# Altium integrated library TI Data Converters Analog to Digital Converter.IntLib: 2198 symbols (part 134 of 164)
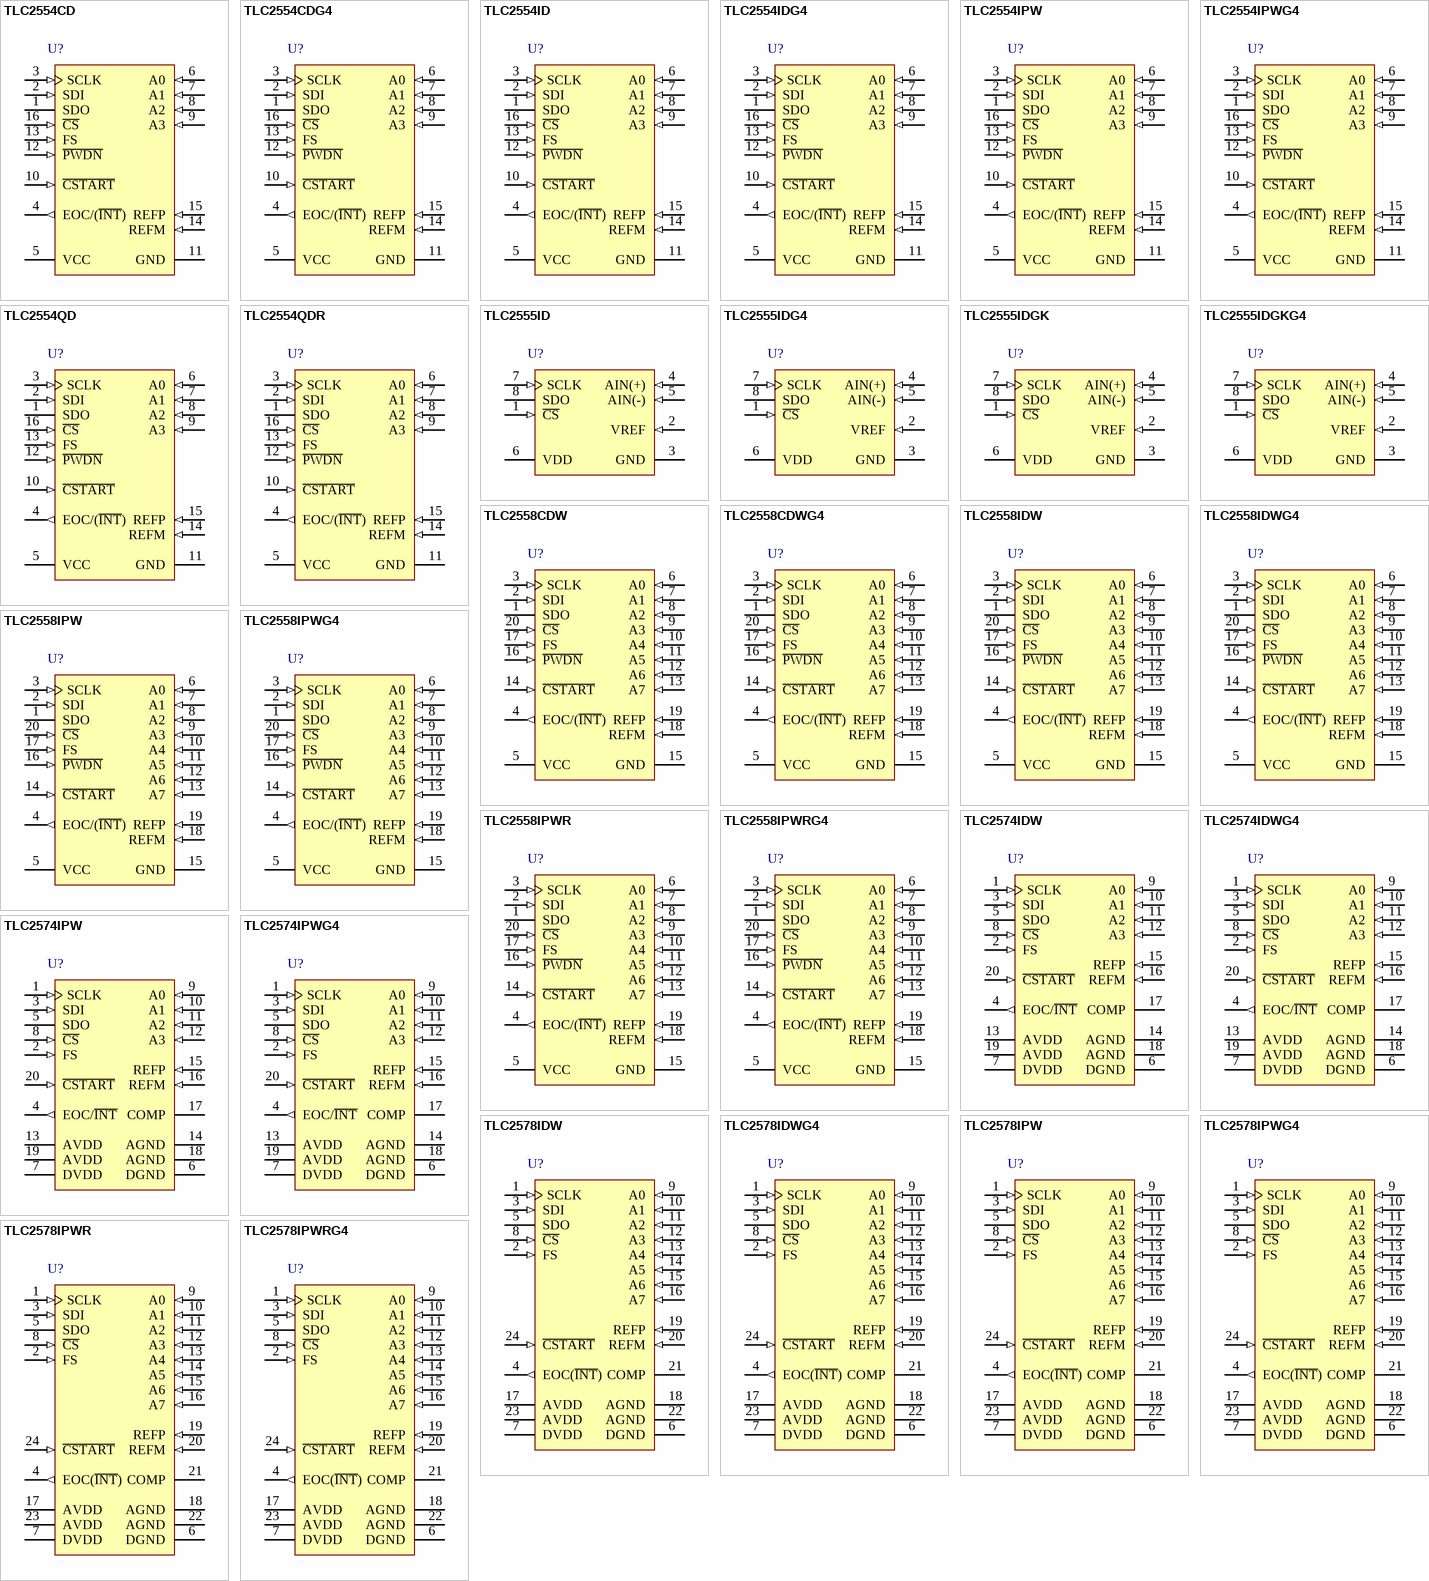
[diagram p259: symbols TLC2554CD to TLC2578IPWRG4]

## TLC2578IDWG4
designator U?
Serial Out, Low Power with Built-In Conversion Clock and 8 x FIFO, 8 Channel, -40 to 85 degC, 24-pin SOIC (DW24), Green (RoHS & no Sb/Br); Manufacturer: Texas Instruments; PartNumber: TLC2578IDWG4; # Input Channels: 8; Analog Voltage AV/DD(Max)(V): 5.5; Analog Voltage AV/DD(Min)(V): 4.75; Architecture: SAR; Digital Supply(Min)(V): 2.7; ENOB(Bits): 11.7; INL(Max)(+/-LSB): 1; Interface: Serial SPI; Resolution(Bits): 12; Sample Rate (max)(SPS): 200k; SFDR(dB): 83; SINAD(dB): 72; SubFamily: Precision ADC (<=10MSPS); DatasheetVersion: SLAS262C; PackageVersion: 4040000-5/G, 01/2011; PackageReference: DW24; PackageDescription: 24-Pin Plastic Small Outline, Body 15.4 x 7.5 mm, Pitch 1.27 mm; Supplier 1: Digi-Key; Supplier Part Number 1: 296-2856-5-ND; Digital Supply(Max)(V): 5.5; Eco-Plan: Green (RoHS & no Sb/Br); SNR(dB): 72; Mounting Technology: Surface Mount; Code_JEDEC: MS-013; ComponentLink1Description: Manufacturer URL; ComponentLink1URL: http://www.ti.com/; ComponentLink2Description: Datasheet; ComponentLink2URL: http://www.ti.com/general/docs/lit/getliterature.tsp?genericPartNumber=TLC2578&fileType=pdf; ComponentLink3Description: Package Specification; ComponentLink3URL: http://www.ti.com/litv/pdf/mpds174a
footprint TI-DW24_N (SOIC, 24-Leads, Body 15.4x7.5mm, Pitch 1.27mm, IPC Medium Density)
footprint TI-DW24_L (SOIC, 24-Leads, Body 15.4x7.5mm, Pitch 1.27mm, IPC High Density)
footprint TI-DW24_M (SOIC, 24-Leads, Body 15.4x7.5mm, Pitch 1.27mm, IPC Low Density)
pins: 1 SCLK (in) "Serial clock input from the host processor to clock in the input from SDI and clock out the output via SDO. It can also be used as the conversion clock source when the external conversion clock is selected (see Table 2). (See Datasheet)", 2 FS (in) "Frame sync input from DSP. The rising edge of FS indicates the start of a serial data frame being transferred (coming into or being sent out of the device). If FS is low at the falling edge of C\S\, the rising edge of FS (See Datasheet)", 3 SDI (in) "Serial data input. The first 4 MSBs, ID[15:12], are decoded as one 4-bit command. All trailing bits, except for the WRITE CFR command, are filled with zeros. The WRITE CFR command requires additional 12-bit data. The MSB of (See Datasheet)", 4 EOC(~{INT}) (out) "End of conversion (EOC) or interrupt to host processor (I\N\T\) EOC: used in conversion mode 00 only. EOC goes from high to low at the end of the sampling and remains low until the conversion is complete and data is ready. (See Datasheet)", 5 SDO (hiz) "The 3-state serial output for the A/D conversion result. All data bits are shifted out through SDO. SDO is in the high-impedance state when C\S\ is high. SDO is released after a C\S\ falling edge. The output format is MSB (See Datasheet)", 6 DGND (power) "Digital ground return for the internal circuitry", 7 DVDD (power) "Digital supply voltage", 8 ~{CS} (in) "Chip select. When C\S\ is high, SDO is in high-impedance state, SDI is ignored, and SCLK is disabled to clock data, but works as conversion clock source if programmed. The falling edge of C\S\ input resets the internal 4-bit (See Datasheet)", 9 A0 (in) "Analog signal inputs. Analog input signals applied to these terminals are internally multiplexed. The driving source impedance should be less than or equal to 25 ohm for normal sampling. For larger source impedance, use the (See Datasheet)", 10 A1 (in) "Analog signal inputs. Analog input signals applied to these terminals are internally multiplexed. The driving source impedance should be less than or equal to 25 ohm for normal sampling. For larger source impedance, use the (See Datasheet)", 11 A2 (in) "Analog signal inputs. Analog input signals applied to these terminals are internally multiplexed. The driving source impedance should be less than or equal to 25 ohm for normal sampling. For larger source impedance, use the (See Datasheet)", 12 A3 (in) "Analog signal inputs. Analog input signals applied to these terminals are internally multiplexed. The driving source impedance should be less than or equal to 25 ohm for normal sampling. For larger source impedance, use the (See Datasheet)", 13 A4 (in) "Analog signal inputs. Analog input signals applied to these terminals are internally multiplexed. The driving source impedance should be less than or equal to 25 ohm for normal sampling. For larger source impedance, use the (See Datasheet)", 14 A5 (in) "Analog signal inputs. Analog input signals applied to these terminals are internally multiplexed. The driving source impedance should be less than or equal to 25 ohm for normal sampling. For larger source impedance, use the (See Datasheet)", 15 A6 (in) "Analog signal inputs. Analog input signals applied to these terminals are internally multiplexed. The driving source impedance should be less than or equal to 25 ohm for normal sampling. For larger source impedance, use the (See Datasheet)", 16 A7 (in) "Analog signal inputs. Analog input signals applied to these terminals are internally multiplexed. The driving source impedance should be less than or equal to 25 ohm for normal sampling. For larger source impedance, use the (See Datasheet)", 17 AVDD (power) "Analog supply voltage", 18 AGND (power) "Analog ground return for the internal circuitry. Unless otherwise noted, all analog voltage measurements are with respect to AGND.", 19 REFP (in) "External positive reference input. The range of maximum input voltage is determined by the difference between the voltage applied to this terminal and to the REFM terminal. Always install decoupling capacitors (10 uF in (See Datasheet)", 20 REFM (in) "External low reference input. Connect REFM to AGND.", 21 COMP "Internal compensation pin. Install compensation capacitors 0.1 uF between this pin and AGND.", 22 AGND (power) "Analog ground return for the internal circuitry. Unless otherwise noted, all analog voltage measurements are with respect to AGND.", 23 AVDD (power) "Analog supply voltage", 24 ~{CSTART} (in) "External sampling trigger signal, which initiates the sampling from a selected analog input channel when the device works in extended sampling mode (asynchronous sampling). A high-to-low transition starts the sampling of the (See Datasheet)"

## TLC2578IPW
designator U?
Serial Out, Low Power with Built-In Conversion Clock and 8 x FIFO, 8 Channel, -40 to 85 degC, 24-pin SOP (PW24), Green (RoHS & no Sb/Br); Manufacturer: Texas Instruments; PartNumber: TLC2578IPW; # Input Channels: 8; Analog Voltage AV/DD(Max)(V): 5.5; Analog Voltage AV/DD(Min)(V): 4.75; Architecture: SAR; Digital Supply(Min)(V): 2.7; ENOB(Bits): 11.7; INL(Max)(+/-LSB): 1; Interface: Serial SPI; Resolution(Bits): 12; Sample Rate (max)(SPS): 200k; SFDR(dB): 83; SINAD(dB): 72; SubFamily: Precision ADC (<=10MSPS); DatasheetVersion: SLAS262C; PackageVersion: 4040064-6/G, 02/2011; PackageReference: PW24; PackageDescription: 24-Pin Plastic Small Outline, Body 7.8 x 4.4 mm, Pitch 0.65 mm; Supplier 1: Digi-Key; Supplier Part Number 1: TLC0831IPE4-ND; Digital Supply(Max)(V): 5.5; Eco-Plan: Green (RoHS & no Sb/Br); SNR(dB): 72; Mounting Technology: Surface Mount; Code_JEDEC: MO-153; ComponentLink1Description: Manufacturer URL; ComponentLink1URL: http://www.ti.com/; ComponentLink2Description: Datasheet; ComponentLink2URL: http://www.ti.com/general/docs/lit/getliterature.tsp?genericPartNumber=TLC2578&fileType=pdf; ComponentLink3Description: Package Specification; ComponentLink3URL: http://www.ti.com/litv/pdf/mpds363
footprint TI-PW24_N (SOP, 24-Leads, Body 7.8x4.4mm, Pitch 0.65mm, IPC Medium Density)
footprint TI-PW24_L (SOP, 24-Leads, Body 7.8x4.4mm, Pitch 0.65mm, IPC High Density)
footprint TI-PW24_M (SOP, 24-Leads, Body 7.8x4.4mm, Pitch 0.65mm, IPC Low Density)
pins: 1 SCLK (in) "Serial clock input from the host processor to clock in the input from SDI and clock out the output via SDO. It can also be used as the conversion clock source when the external conversion clock is selected (see Table 2). (See Datasheet)", 2 FS (in) "Frame sync input from DSP. The rising edge of FS indicates the start of a serial data frame being transferred (coming into or being sent out of the device). If FS is low at the falling edge of C\S\, the rising edge of FS (See Datasheet)", 3 SDI (in) "Serial data input. The first 4 MSBs, ID[15:12], are decoded as one 4-bit command. All trailing bits, except for the WRITE CFR command, are filled with zeros. The WRITE CFR command requires additional 12-bit data. The MSB of (See Datasheet)", 4 EOC(~{INT}) (out) "End of conversion (EOC) or interrupt to host processor (I\N\T\) EOC: used in conversion mode 00 only. EOC goes from high to low at the end of the sampling and remains low until the conversion is complete and data is ready. (See Datasheet)", 5 SDO (hiz) "The 3-state serial output for the A/D conversion result. All data bits are shifted out through SDO. SDO is in the high-impedance state when C\S\ is high. SDO is released after a C\S\ falling edge. The output format is MSB (See Datasheet)", 6 DGND (power) "Digital ground return for the internal circuitry", 7 DVDD (power) "Digital supply voltage", 8 ~{CS} (in) "Chip select. When C\S\ is high, SDO is in high-impedance state, SDI is ignored, and SCLK is disabled to clock data, but works as conversion clock source if programmed. The falling edge of C\S\ input resets the internal 4-bit (See Datasheet)", 9 A0 (in) "Analog signal inputs. Analog input signals applied to these terminals are internally multiplexed. The driving source impedance should be less than or equal to 25 ohm for normal sampling. For larger source impedance, use the (See Datasheet)", 10 A1 (in) "Analog signal inputs. Analog input signals applied to these terminals are internally multiplexed. The driving source impedance should be less than or equal to 25 ohm for normal sampling. For larger source impedance, use the (See Datasheet)", 11 A2 (in) "Analog signal inputs. Analog input signals applied to these terminals are internally multiplexed. The driving source impedance should be less than or equal to 25 ohm for normal sampling. For larger source impedance, use the (See Datasheet)", 12 A3 (in) "Analog signal inputs. Analog input signals applied to these terminals are internally multiplexed. The driving source impedance should be less than or equal to 25 ohm for normal sampling. For larger source impedance, use the (See Datasheet)", 13 A4 (in) "Analog signal inputs. Analog input signals applied to these terminals are internally multiplexed. The driving source impedance should be less than or equal to 25 ohm for normal sampling. For larger source impedance, use the (See Datasheet)", 14 A5 (in) "Analog signal inputs. Analog input signals applied to these terminals are internally multiplexed. The driving source impedance should be less than or equal to 25 ohm for normal sampling. For larger source impedance, use the (See Datasheet)", 15 A6 (in) "Analog signal inputs. Analog input signals applied to these terminals are internally multiplexed. The driving source impedance should be less than or equal to 25 ohm for normal sampling. For larger source impedance, use the (See Datasheet)", 16 A7 (in) "Analog signal inputs. Analog input signals applied to these terminals are internally multiplexed. The driving source impedance should be less than or equal to 25 ohm for normal sampling. For larger source impedance, use the (See Datasheet)", 17 AVDD (power) "Analog supply voltage", 18 AGND (power) "Analog ground return for the internal circuitry. Unless otherwise noted, all analog voltage measurements are with respect to AGND.", 19 REFP (in) "External positive reference input. The range of maximum input voltage is determined by the difference between the voltage applied to this terminal and to the REFM terminal. Always install decoupling capacitors (10 uF in (See Datasheet)", 20 REFM (in) "External low reference input. Connect REFM to AGND.", 21 COMP "Internal compensation pin. Install compensation capacitors 0.1 uF between this pin and AGND.", 22 AGND (power) "Analog ground return for the internal circuitry. Unless otherwise noted, all analog voltage measurements are with respect to AGND.", 23 AVDD (power) "Analog supply voltage", 24 ~{CSTART} (in) "External sampling trigger signal, which initiates the sampling from a selected analog input channel when the device works in extended sampling mode (asynchronous sampling). A high-to-low transition starts the sampling of the (See Datasheet)"

## TLC2578IPWG4
designator U?
Serial Out, Low Power with Built-In Conversion Clock and 8 x FIFO, 8 Channel, -40 to 85 degC, 24-pin SOP (PW24), Green (RoHS & no Sb/Br); Manufacturer: Texas Instruments; PartNumber: TLC2578IPWG4; # Input Channels: 8; Analog Voltage AV/DD(Max)(V): 5.5; Analog Voltage AV/DD(Min)(V): 4.75; Architecture: SAR; Digital Supply(Min)(V): 2.7; ENOB(Bits): 11.7; INL(Max)(+/-LSB): 1; Interface: Serial SPI; Resolution(Bits): 12; Sample Rate (max)(SPS): 200k; SFDR(dB): 83; SINAD(dB): 72; SubFamily: Precision ADC (<=10MSPS); DatasheetVersion: SLAS262C; PackageVersion: 4040064-6/G, 02/2011; PackageReference: PW24; PackageDescription: 24-Pin Plastic Small Outline, Body 7.8 x 4.4 mm, Pitch 0.65 mm; Supplier 1: Digi-Key; Supplier Part Number 1: 296-1332-5-ND; Digital Supply(Max)(V): 5.5; Eco-Plan: Green (RoHS & no Sb/Br); SNR(dB): 72; Mounting Technology: Surface Mount; Code_JEDEC: MO-153; ComponentLink1Description: Manufacturer URL; ComponentLink1URL: http://www.ti.com/; ComponentLink2Description: Datasheet; ComponentLink2URL: http://www.ti.com/general/docs/lit/getliterature.tsp?genericPartNumber=TLC2578&fileType=pdf; ComponentLink3Description: Package Specification; ComponentLink3URL: http://www.ti.com/litv/pdf/mpds363
footprint TI-PW24_N (SOP, 24-Leads, Body 7.8x4.4mm, Pitch 0.65mm, IPC Medium Density)
footprint TI-PW24_L (SOP, 24-Leads, Body 7.8x4.4mm, Pitch 0.65mm, IPC High Density)
footprint TI-PW24_M (SOP, 24-Leads, Body 7.8x4.4mm, Pitch 0.65mm, IPC Low Density)
pins: 1 SCLK (in) "Serial clock input from the host processor to clock in the input from SDI and clock out the output via SDO. It can also be used as the conversion clock source when the external conversion clock is selected (see Table 2). (See Datasheet)", 2 FS (in) "Frame sync input from DSP. The rising edge of FS indicates the start of a serial data frame being transferred (coming into or being sent out of the device). If FS is low at the falling edge of C\S\, the rising edge of FS (See Datasheet)", 3 SDI (in) "Serial data input. The first 4 MSBs, ID[15:12], are decoded as one 4-bit command. All trailing bits, except for the WRITE CFR command, are filled with zeros. The WRITE CFR command requires additional 12-bit data. The MSB of (See Datasheet)", 4 EOC(~{INT}) (out) "End of conversion (EOC) or interrupt to host processor (I\N\T\) EOC: used in conversion mode 00 only. EOC goes from high to low at the end of the sampling and remains low until the conversion is complete and data is ready. (See Datasheet)", 5 SDO (hiz) "The 3-state serial output for the A/D conversion result. All data bits are shifted out through SDO. SDO is in the high-impedance state when C\S\ is high. SDO is released after a C\S\ falling edge. The output format is MSB (See Datasheet)", 6 DGND (power) "Digital ground return for the internal circuitry", 7 DVDD (power) "Digital supply voltage", 8 ~{CS} (in) "Chip select. When C\S\ is high, SDO is in high-impedance state, SDI is ignored, and SCLK is disabled to clock data, but works as conversion clock source if programmed. The falling edge of C\S\ input resets the internal 4-bit (See Datasheet)", 9 A0 (in) "Analog signal inputs. Analog input signals applied to these terminals are internally multiplexed. The driving source impedance should be less than or equal to 25 ohm for normal sampling. For larger source impedance, use the (See Datasheet)", 10 A1 (in) "Analog signal inputs. Analog input signals applied to these terminals are internally multiplexed. The driving source impedance should be less than or equal to 25 ohm for normal sampling. For larger source impedance, use the (See Datasheet)", 11 A2 (in) "Analog signal inputs. Analog input signals applied to these terminals are internally multiplexed. The driving source impedance should be less than or equal to 25 ohm for normal sampling. For larger source impedance, use the (See Datasheet)", 12 A3 (in) "Analog signal inputs. Analog input signals applied to these terminals are internally multiplexed. The driving source impedance should be less than or equal to 25 ohm for normal sampling. For larger source impedance, use the (See Datasheet)", 13 A4 (in) "Analog signal inputs. Analog input signals applied to these terminals are internally multiplexed. The driving source impedance should be less than or equal to 25 ohm for normal sampling. For larger source impedance, use the (See Datasheet)", 14 A5 (in) "Analog signal inputs. Analog input signals applied to these terminals are internally multiplexed. The driving source impedance should be less than or equal to 25 ohm for normal sampling. For larger source impedance, use the (See Datasheet)", 15 A6 (in) "Analog signal inputs. Analog input signals applied to these terminals are internally multiplexed. The driving source impedance should be less than or equal to 25 ohm for normal sampling. For larger source impedance, use the (See Datasheet)", 16 A7 (in) "Analog signal inputs. Analog input signals applied to these terminals are internally multiplexed. The driving source impedance should be less than or equal to 25 ohm for normal sampling. For larger source impedance, use the (See Datasheet)", 17 AVDD (power) "Analog supply voltage", 18 AGND (power) "Analog ground return for the internal circuitry. Unless otherwise noted, all analog voltage measurements are with respect to AGND.", 19 REFP (in) "External positive reference input. The range of maximum input voltage is determined by the difference between the voltage applied to this terminal and to the REFM terminal. Always install decoupling capacitors (10 uF in (See Datasheet)", 20 REFM (in) "External low reference input. Connect REFM to AGND.", 21 COMP "Internal compensation pin. Install compensation capacitors 0.1 uF between this pin and AGND.", 22 AGND (power) "Analog ground return for the internal circuitry. Unless otherwise noted, all analog voltage measurements are with respect to AGND.", 23 AVDD (power) "Analog supply voltage", 24 ~{CSTART} (in) "External sampling trigger signal, which initiates the sampling from a selected analog input channel when the device works in extended sampling mode (asynchronous sampling). A high-to-low transition starts the sampling of the (See Datasheet)"

## TLC2578IPWR
designator U?
Serial Out, Low Power with Built-In Conversion Clock and 8 x FIFO, 8 Channel, -40 to 85 degC, 24-pin SOP (PW24), Green (RoHS & no Sb/Br); Manufacturer: Texas Instruments; PartNumber: TLC2578IPWR; # Input Channels: 8; Analog Voltage AV/DD(Max)(V): 5.5; Analog Voltage AV/DD(Min)(V): 4.75; Architecture: SAR; Digital Supply(Min)(V): 2.7; ENOB(Bits): 11.7; INL(Max)(+/-LSB): 1; Interface: Serial SPI; Resolution(Bits): 12; Sample Rate (max)(SPS): 200k; SFDR(dB): 83; SINAD(dB): 72; SubFamily: Precision ADC (<=10MSPS); DatasheetVersion: SLAS262C; PackageVersion: 4040064-6/G, 02/2011; PackageReference: PW24; PackageDescription: 24-Pin Plastic Small Outline, Body 7.8 x 4.4 mm, Pitch 0.65 mm; Supplier 1: Digi-Key; Supplier Part Number 1: TLC542CDWG4-ND; Digital Supply(Max)(V): 5.5; Eco-Plan: Green (RoHS & no Sb/Br); SNR(dB): 72; Mounting Technology: Surface Mount; Code_JEDEC: MO-153; ComponentLink1Description: Manufacturer URL; ComponentLink1URL: http://www.ti.com/; ComponentLink2Description: Datasheet; ComponentLink2URL: http://www.ti.com/general/docs/lit/getliterature.tsp?genericPartNumber=TLC2578&fileType=pdf; ComponentLink3Description: Package Specification; ComponentLink3URL: http://www.ti.com/litv/pdf/mpds363
footprint TI-PW24_N (SOP, 24-Leads, Body 7.8x4.4mm, Pitch 0.65mm, IPC Medium Density)
footprint TI-PW24_L (SOP, 24-Leads, Body 7.8x4.4mm, Pitch 0.65mm, IPC High Density)
footprint TI-PW24_M (SOP, 24-Leads, Body 7.8x4.4mm, Pitch 0.65mm, IPC Low Density)
pins: 1 SCLK (in) "Serial clock input from the host processor to clock in the input from SDI and clock out the output via SDO. It can also be used as the conversion clock source when the external conversion clock is selected (see Table 2). (See Datasheet)", 2 FS (in) "Frame sync input from DSP. The rising edge of FS indicates the start of a serial data frame being transferred (coming into or being sent out of the device). If FS is low at the falling edge of C\S\, the rising edge of FS (See Datasheet)", 3 SDI (in) "Serial data input. The first 4 MSBs, ID[15:12], are decoded as one 4-bit command. All trailing bits, except for the WRITE CFR command, are filled with zeros. The WRITE CFR command requires additional 12-bit data. The MSB of (See Datasheet)", 4 EOC(~{INT}) (out) "End of conversion (EOC) or interrupt to host processor (I\N\T\) EOC: used in conversion mode 00 only. EOC goes from high to low at the end of the sampling and remains low until the conversion is complete and data is ready. (See Datasheet)", 5 SDO (hiz) "The 3-state serial output for the A/D conversion result. All data bits are shifted out through SDO. SDO is in the high-impedance state when C\S\ is high. SDO is released after a C\S\ falling edge. The output format is MSB (See Datasheet)", 6 DGND (power) "Digital ground return for the internal circuitry", 7 DVDD (power) "Digital supply voltage", 8 ~{CS} (in) "Chip select. When C\S\ is high, SDO is in high-impedance state, SDI is ignored, and SCLK is disabled to clock data, but works as conversion clock source if programmed. The falling edge of C\S\ input resets the internal 4-bit (See Datasheet)", 9 A0 (in) "Analog signal inputs. Analog input signals applied to these terminals are internally multiplexed. The driving source impedance should be less than or equal to 25 ohm for normal sampling. For larger source impedance, use the (See Datasheet)", 10 A1 (in) "Analog signal inputs. Analog input signals applied to these terminals are internally multiplexed. The driving source impedance should be less than or equal to 25 ohm for normal sampling. For larger source impedance, use the (See Datasheet)", 11 A2 (in) "Analog signal inputs. Analog input signals applied to these terminals are internally multiplexed. The driving source impedance should be less than or equal to 25 ohm for normal sampling. For larger source impedance, use the (See Datasheet)", 12 A3 (in) "Analog signal inputs. Analog input signals applied to these terminals are internally multiplexed. The driving source impedance should be less than or equal to 25 ohm for normal sampling. For larger source impedance, use the (See Datasheet)", 13 A4 (in) "Analog signal inputs. Analog input signals applied to these terminals are internally multiplexed. The driving source impedance should be less than or equal to 25 ohm for normal sampling. For larger source impedance, use the (See Datasheet)", 14 A5 (in) "Analog signal inputs. Analog input signals applied to these terminals are internally multiplexed. The driving source impedance should be less than or equal to 25 ohm for normal sampling. For larger source impedance, use the (See Datasheet)", 15 A6 (in) "Analog signal inputs. Analog input signals applied to these terminals are internally multiplexed. The driving source impedance should be less than or equal to 25 ohm for normal sampling. For larger source impedance, use the (See Datasheet)", 16 A7 (in) "Analog signal inputs. Analog input signals applied to these terminals are internally multiplexed. The driving source impedance should be less than or equal to 25 ohm for normal sampling. For larger source impedance, use the (See Datasheet)", 17 AVDD (power) "Analog supply voltage", 18 AGND (power) "Analog ground return for the internal circuitry. Unless otherwise noted, all analog voltage measurements are with respect to AGND.", 19 REFP (in) "External positive reference input. The range of maximum input voltage is determined by the difference between the voltage applied to this terminal and to the REFM terminal. Always install decoupling capacitors (10 uF in (See Datasheet)", 20 REFM (in) "External low reference input. Connect REFM to AGND.", 21 COMP "Internal compensation pin. Install compensation capacitors 0.1 uF between this pin and AGND.", 22 AGND (power) "Analog ground return for the internal circuitry. Unless otherwise noted, all analog voltage measurements are with respect to AGND.", 23 AVDD (power) "Analog supply voltage", 24 ~{CSTART} (in) "External sampling trigger signal, which initiates the sampling from a selected analog input channel when the device works in extended sampling mode (asynchronous sampling). A high-to-low transition starts the sampling of the (See Datasheet)"

## TLC2578IPWRG4
designator U?
Serial Out, Low Power with Built-In Conversion Clock and 8 x FIFO, 8 Channel, -40 to 85 degC, 24-pin SOP (PW24), Green (RoHS & no Sb/Br); Manufacturer: Texas Instruments; PartNumber: TLC2578IPWRG4; # Input Channels: 8; Analog Voltage AV/DD(Max)(V): 5.5; Analog Voltage AV/DD(Min)(V): 4.75; Architecture: SAR; Digital Supply(Min)(V): 2.7; ENOB(Bits): 11.7; INL(Max)(+/-LSB): 1; Interface: Serial SPI; Resolution(Bits): 12; Sample Rate (max)(SPS): 200k; SFDR(dB): 83; SINAD(dB): 72; SubFamily: Precision ADC (<=10MSPS); DatasheetVersion: SLAS262C; PackageVersion: 4040064-6/G, 02/2011; PackageReference: PW24; PackageDescription: 24-Pin Plastic Small Outline, Body 7.8 x 4.4 mm, Pitch 0.65 mm; Supplier 1: Digi-Key; Supplier Part Number 1: 296-1332-2-ND; Digital Supply(Max)(V): 5.5; Eco-Plan: Green (RoHS & no Sb/Br); SNR(dB): 72; Mounting Technology: Surface Mount; Code_JEDEC: MO-153; ComponentLink1Description: Manufacturer URL; ComponentLink1URL: http://www.ti.com/; ComponentLink2Description: Datasheet; ComponentLink2URL: http://www.ti.com/general/docs/lit/getliterature.tsp?genericPartNumber=TLC2578&fileType=pdf; ComponentLink3Description: Package Specification; ComponentLink3URL: http://www.ti.com/litv/pdf/mpds363
footprint TI-PW24_N (SOP, 24-Leads, Body 7.8x4.4mm, Pitch 0.65mm, IPC Medium Density)
footprint TI-PW24_L (SOP, 24-Leads, Body 7.8x4.4mm, Pitch 0.65mm, IPC High Density)
footprint TI-PW24_M (SOP, 24-Leads, Body 7.8x4.4mm, Pitch 0.65mm, IPC Low Density)
pins: 1 SCLK (in) "Serial clock input from the host processor to clock in the input from SDI and clock out the output via SDO. It can also be used as the conversion clock source when the external conversion clock is selected (see Table 2). (See Datasheet)", 2 FS (in) "Frame sync input from DSP. The rising edge of FS indicates the start of a serial data frame being transferred (coming into or being sent out of the device). If FS is low at the falling edge of C\S\, the rising edge of FS (See Datasheet)", 3 SDI (in) "Serial data input. The first 4 MSBs, ID[15:12], are decoded as one 4-bit command. All trailing bits, except for the WRITE CFR command, are filled with zeros. The WRITE CFR command requires additional 12-bit data. The MSB of (See Datasheet)", 4 EOC(~{INT}) (out) "End of conversion (EOC) or interrupt to host processor (I\N\T\) EOC: used in conversion mode 00 only. EOC goes from high to low at the end of the sampling and remains low until the conversion is complete and data is ready. (See Datasheet)", 5 SDO (hiz) "The 3-state serial output for the A/D conversion result. All data bits are shifted out through SDO. SDO is in the high-impedance state when C\S\ is high. SDO is released after a C\S\ falling edge. The output format is MSB (See Datasheet)", 6 DGND (power) "Digital ground return for the internal circuitry", 7 DVDD (power) "Digital supply voltage", 8 ~{CS} (in) "Chip select. When C\S\ is high, SDO is in high-impedance state, SDI is ignored, and SCLK is disabled to clock data, but works as conversion clock source if programmed. The falling edge of C\S\ input resets the internal 4-bit (See Datasheet)", 9 A0 (in) "Analog signal inputs. Analog input signals applied to these terminals are internally multiplexed. The driving source impedance should be less than or equal to 25 ohm for normal sampling. For larger source impedance, use the (See Datasheet)", 10 A1 (in) "Analog signal inputs. Analog input signals applied to these terminals are internally multiplexed. The driving source impedance should be less than or equal to 25 ohm for normal sampling. For larger source impedance, use the (See Datasheet)", 11 A2 (in) "Analog signal inputs. Analog input signals applied to these terminals are internally multiplexed. The driving source impedance should be less than or equal to 25 ohm for normal sampling. For larger source impedance, use the (See Datasheet)", 12 A3 (in) "Analog signal inputs. Analog input signals applied to these terminals are internally multiplexed. The driving source impedance should be less than or equal to 25 ohm for normal sampling. For larger source impedance, use the (See Datasheet)", 13 A4 (in) "Analog signal inputs. Analog input signals applied to these terminals are internally multiplexed. The driving source impedance should be less than or equal to 25 ohm for normal sampling. For larger source impedance, use the (See Datasheet)", 14 A5 (in) "Analog signal inputs. Analog input signals applied to these terminals are internally multiplexed. The driving source impedance should be less than or equal to 25 ohm for normal sampling. For larger source impedance, use the (See Datasheet)", 15 A6 (in) "Analog signal inputs. Analog input signals applied to these terminals are internally multiplexed. The driving source impedance should be less than or equal to 25 ohm for normal sampling. For larger source impedance, use the (See Datasheet)", 16 A7 (in) "Analog signal inputs. Analog input signals applied to these terminals are internally multiplexed. The driving source impedance should be less than or equal to 25 ohm for normal sampling. For larger source impedance, use the (See Datasheet)", 17 AVDD (power) "Analog supply voltage", 18 AGND (power) "Analog ground return for the internal circuitry. Unless otherwise noted, all analog voltage measurements are with respect to AGND.", 19 REFP (in) "External positive reference input. The range of maximum input voltage is determined by the difference between the voltage applied to this terminal and to the REFM terminal. Always install decoupling capacitors (10 uF in (See Datasheet)", 20 REFM (in) "External low reference input. Connect REFM to AGND.", 21 COMP "Internal compensation pin. Install compensation capacitors 0.1 uF between this pin and AGND.", 22 AGND (power) "Analog ground return for the internal circuitry. Unless otherwise noted, all analog voltage measurements are with respect to AGND.", 23 AVDD (power) "Analog supply voltage", 24 ~{CSTART} (in) "External sampling trigger signal, which initiates the sampling from a selected analog input channel when the device works in extended sampling mode (asynchronous sampling). A high-to-low transition starts the sampling of the (See Datasheet)"

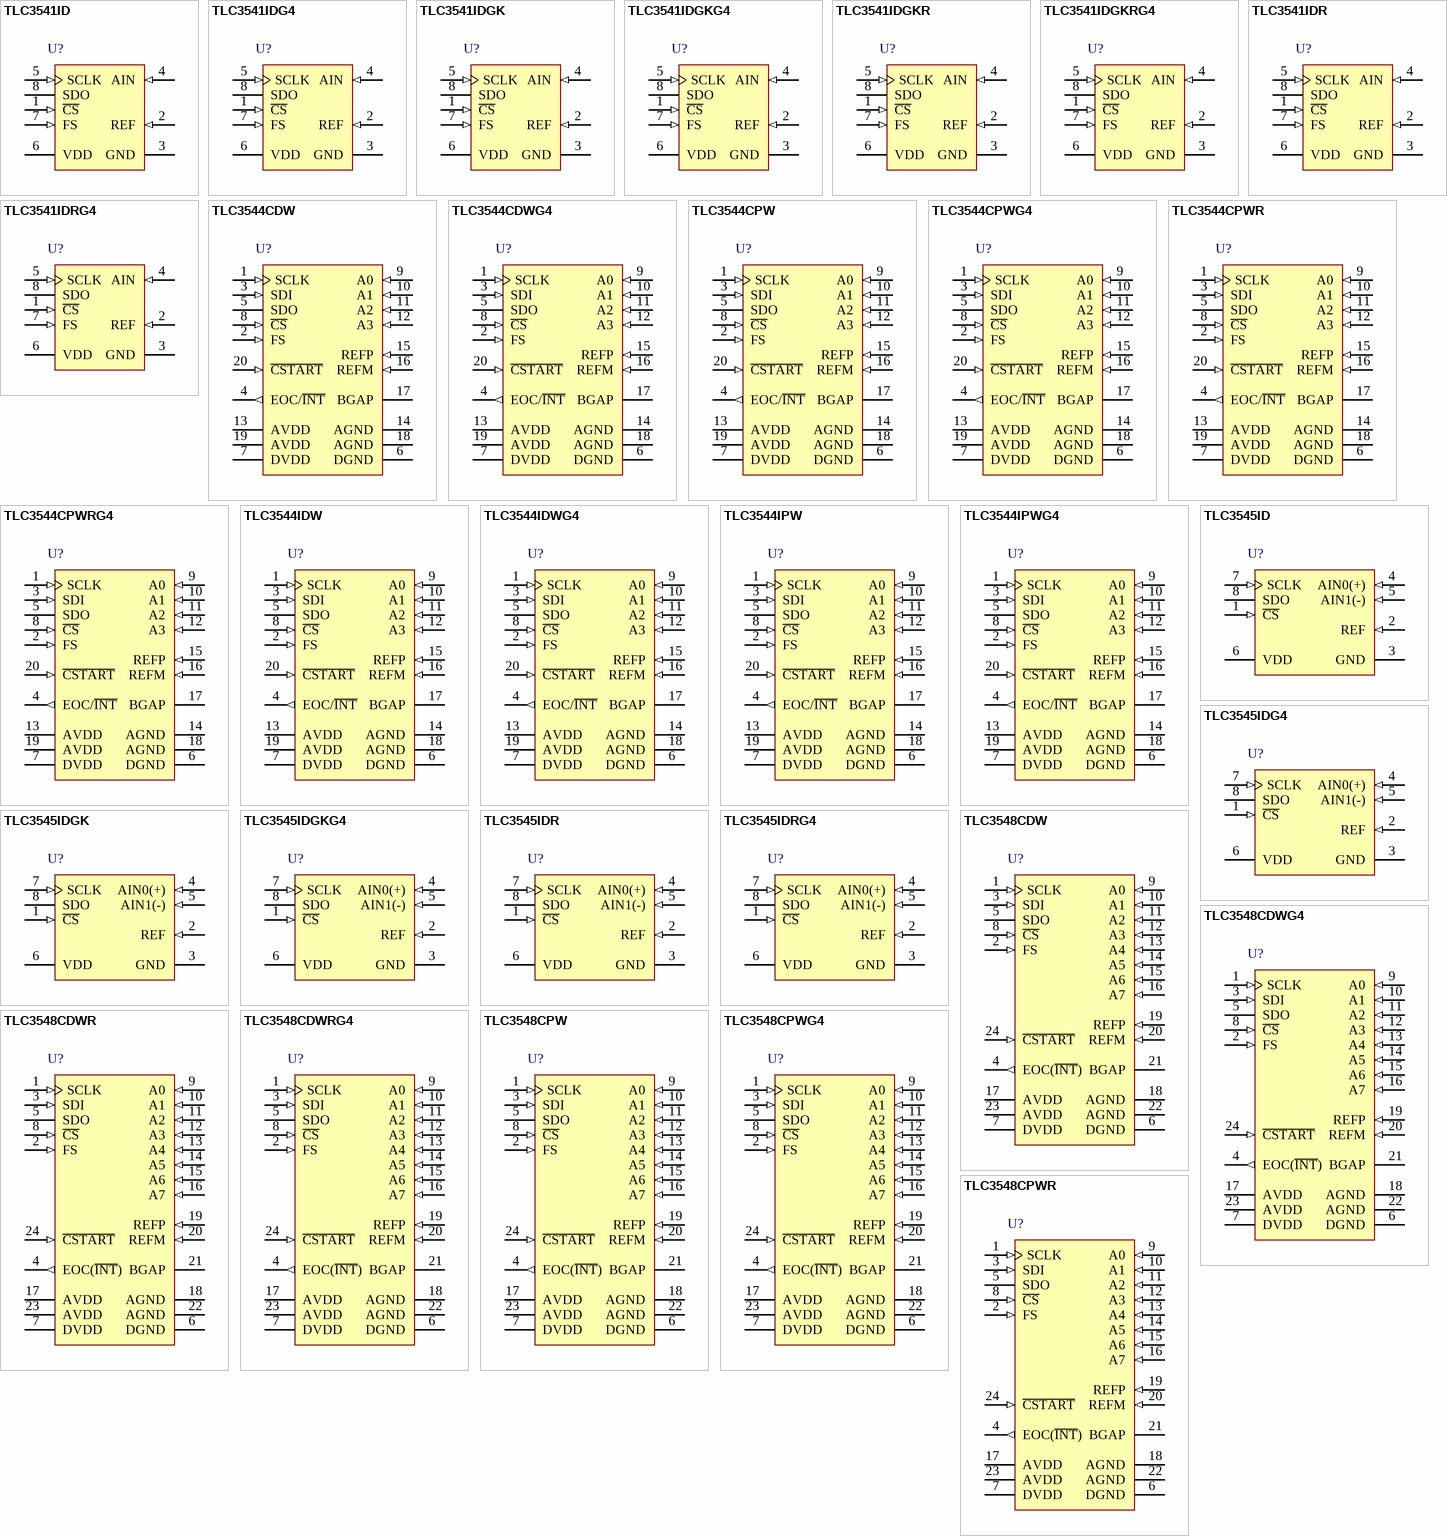
[diagram p112: symbols TLC3541ID to TLC3548CPWR]

## TLC3541ID
designator U?
14-Bit 200 kSPS ADC Serial Out, Auto Power Down, Single Ended Input, -40 to 85 degC, 8-pin SOIC (D8), Green (RoHS & no Sb/Br); Manufacturer: Texas Instruments; PartNumber: TLC3541ID; # Input Channels: 1; Analog Voltage AV/DD(Max)(V): 5.5; Analog Voltage AV/DD(Min)(V): 4.5; Architecture: SAR; ENOB(Bits): 13.2; Interface: Serial SPI; Resolution(Bits): 14; Sample Rate (max)(SPS): 200k; SFDR(dB): 95; SINAD(dB): 81.5; SNR(dB): 82; SubFamily: Precision ADC (<=10MSPS); DatasheetVersion: SLAS345; PackageVersion: 4040047-3/M, 06/2011; PackageReference: D8; PackageDescription: 8-Pin Plastic Small Outline, Body 4.9 x 3.9 mm, Pitch 1.27 mm; Supplier 1: Digi-Key; Supplier Part Number 1: TLC542CDWRG4-ND; Digital Supply(Max)(V): 5.5; Digital Supply(Min)(V): 4.5; Eco-Plan: Green (RoHS & no Sb/Br); INL(Max)(+/-LSB): 1; Mounting Technology: Surface Mount; Code_JEDEC: MS-012; ComponentLink1Description: Manufacturer URL; ComponentLink1URL: http://www.ti.com/; ComponentLink2Description: Datasheet; ComponentLink2URL: http://www.ti.com/general/docs/lit/getliterature.tsp?genericPartNumber=TLC3541&fileType=pdf; ComponentLink3Description: Package Specification; ComponentLink3URL: http://www.ti.com/litv/pdf/msoi002j
footprint TI-D8_N (SOIC, 8-Leads, Body 4.9x3.9mm, Pitch 1.27mm, IPC Medium Density)
footprint TI-D8_L (SOIC, 8-Leads, Body 4.9x3.9mm, Pitch 1.27mm, IPC High Density)
footprint TI-D8_M (SOIC, 8-Leads, Body 4.9x3.9mm, Pitch 1.27mm, IPC Low Density)
pins: 1 ~{CS} (in) "Chip select. A high-to-low transition on the C\S\ input removes SDO from a high-impedance state within a maximum delay time. If the TLC4541 is attached to a dedicated TMS320 DSP serial port using the FS input, C\S\ can be (See Datasheet)", 2 REF (in) "External voltage reference input", 3 GND (power) "Ground return for the internal circuitry. Unless otherwise noted, all voltage measurements are with respect to GND.", 4 AIN (in) "Analog input channel", 5 SCLK (in) "Serial clock. This terminal receives the serial SCLK from the host processor.", 6 VDD (power) "Positive supply voltage", 7 FS (in) "DSP frame sync input. Indication of a start of a serial data frame. A low-to-high transition removes SDO from the high-impedance state and the MSB is presented. Tie this pin to VDD if not used.", 8 SDO (hiz) "The 3-state serial data output for the A/D conversion result. SDO is kept in the high-impedance state when C\S\ is high. The output format is MSB first. Remaining data bits are presented on the rirsing edge of SCLK. When FS (See Datasheet)"

## TLC3541IDG4
designator U?
14-Bit 200 kSPS ADC Serial Out, Auto Power Down, Single Ended Input, -40 to 85 degC, 8-pin SOIC (D8), Green (RoHS & no Sb/Br); Manufacturer: Texas Instruments; PartNumber: TLC3541IDG4; # Input Channels: 1; Analog Voltage AV/DD(Max)(V): 5.5; Analog Voltage AV/DD(Min)(V): 4.5; Architecture: SAR; ENOB(Bits): 13.2; Interface: Serial SPI; Resolution(Bits): 14; Sample Rate (max)(SPS): 200k; SFDR(dB): 95; SINAD(dB): 81.5; SNR(dB): 82; SubFamily: Precision ADC (<=10MSPS); DatasheetVersion: SLAS345; PackageVersion: 4040047-3/M, 06/2011; PackageReference: D8; PackageDescription: 8-Pin Plastic Small Outline, Body 4.9 x 3.9 mm, Pitch 1.27 mm; Supplier 1: Digi-Key; Supplier Part Number 1: 296-2924-5-ND; Digital Supply(Max)(V): 5.5; Digital Supply(Min)(V): 4.5; Eco-Plan: Green (RoHS & no Sb/Br); INL(Max)(+/-LSB): 1; Mounting Technology: Surface Mount; Code_JEDEC: MS-012; ComponentLink1Description: Manufacturer URL; ComponentLink1URL: http://www.ti.com/; ComponentLink2Description: Datasheet; ComponentLink2URL: http://www.ti.com/general/docs/lit/getliterature.tsp?genericPartNumber=TLC3541&fileType=pdf; ComponentLink3Description: Package Specification; ComponentLink3URL: http://www.ti.com/litv/pdf/msoi002j
footprint TI-D8_N (SOIC, 8-Leads, Body 4.9x3.9mm, Pitch 1.27mm, IPC Medium Density)
footprint TI-D8_L (SOIC, 8-Leads, Body 4.9x3.9mm, Pitch 1.27mm, IPC High Density)
footprint TI-D8_M (SOIC, 8-Leads, Body 4.9x3.9mm, Pitch 1.27mm, IPC Low Density)
pins: 1 ~{CS} (in) "Chip select. A high-to-low transition on the C\S\ input removes SDO from a high-impedance state within a maximum delay time. If the TLC4541 is attached to a dedicated TMS320 DSP serial port using the FS input, C\S\ can be (See Datasheet)", 2 REF (in) "External voltage reference input", 3 GND (power) "Ground return for the internal circuitry. Unless otherwise noted, all voltage measurements are with respect to GND.", 4 AIN (in) "Analog input channel", 5 SCLK (in) "Serial clock. This terminal receives the serial SCLK from the host processor.", 6 VDD (power) "Positive supply voltage", 7 FS (in) "DSP frame sync input. Indication of a start of a serial data frame. A low-to-high transition removes SDO from the high-impedance state and the MSB is presented. Tie this pin to VDD if not used.", 8 SDO (hiz) "The 3-state serial data output for the A/D conversion result. SDO is kept in the high-impedance state when C\S\ is high. The output format is MSB first. Remaining data bits are presented on the rirsing edge of SCLK. When FS (See Datasheet)"

## TLC3541IDGK
designator U?
14-Bit 200 kSPS ADC Serial Out, Auto Power Down, Single Ended Input, -40 to 85 degC, 8-pin SOP (DGK8), Green (RoHS & no Sb/Br); Manufacturer: Texas Instruments; PartNumber: TLC3541IDGK; # Input Channels: 1; Analog Voltage AV/DD(Max)(V): 5.5; Analog Voltage AV/DD(Min)(V): 4.5; Architecture: SAR; ENOB(Bits): 13.2; Interface: Serial SPI; Resolution(Bits): 14; Sample Rate (max)(SPS): 200k; SFDR(dB): 95; SINAD(dB): 81.5; SNR(dB): 82; SubFamily: Precision ADC (<=10MSPS); DatasheetVersion: SLAS345; PackageVersion: 4073329/E, 05/2006; PackageReference: DGK8; PackageDescription: 8-Pin Thin Small Outline, Body 3 x 3 mm, Pitch 0.65 mm; Supplier 1: Digi-Key; Supplier Part Number 1: TLC542CNE4-ND; Digital Supply(Max)(V): 5.5; Digital Supply(Min)(V): 4.5; Eco-Plan: Green (RoHS & no Sb/Br); INL(Max)(+/-LSB): 1; Mounting Technology: Surface Mount; Code_JEDEC: MO-187; ComponentLink1Description: Manufacturer URL; ComponentLink1URL: http://www.ti.com/; ComponentLink2Description: Datasheet; ComponentLink2URL: http://www.ti.com/general/docs/lit/getliterature.tsp?genericPartNumber=TLC3541&fileType=pdf; ComponentLink3Description: Package Specification; ComponentLink3URL: http://www.ti.com/litv/pdf/mpds028d
footprint TI-DGK8_N (SOP, 8-Leads, Body 3x3mm, Pitch 0.65mm, IPC Medium Density)
footprint TI-DGK8_L (SOP, 8-Leads, Body 3x3mm, Pitch 0.65mm, IPC High Density)
footprint TI-DGK8_M (SOP, 8-Leads, Body 3x3mm, Pitch 0.65mm, IPC Low Density)
pins: 1 ~{CS} (in) "Chip select. A high-to-low transition on the C\S\ input removes SDO from a high-impedance state within a maximum delay time. If the TLC4541 is attached to a dedicated TMS320 DSP serial port using the FS input, C\S\ can be (See Datasheet)", 2 REF (in) "External voltage reference input", 3 GND (power) "Ground return for the internal circuitry. Unless otherwise noted, all voltage measurements are with respect to GND.", 4 AIN (in) "Analog input channel", 5 SCLK (in) "Serial clock. This terminal receives the serial SCLK from the host processor.", 6 VDD (power) "Positive supply voltage", 7 FS (in) "DSP frame sync input. Indication of a start of a serial data frame. A low-to-high transition removes SDO from the high-impedance state and the MSB is presented. Tie this pin to VDD if not used.", 8 SDO (hiz) "The 3-state serial data output for the A/D conversion result. SDO is kept in the high-impedance state when C\S\ is high. The output format is MSB first. Remaining data bits are presented on the rirsing edge of SCLK. When FS (See Datasheet)"

## TLC3541IDGKG4
designator U?
14-Bit 200 kSPS ADC Serial Out, Auto Power Down, Single Ended Input, -40 to 85 degC, 8-pin SOP (DGK8), Green (RoHS & no Sb/Br); Manufacturer: Texas Instruments; PartNumber: TLC3541IDGKG4; # Input Channels: 1; Analog Voltage AV/DD(Max)(V): 5.5; Analog Voltage AV/DD(Min)(V): 4.5; Architecture: SAR; ENOB(Bits): 13.2; Interface: Serial SPI; Resolution(Bits): 14; Sample Rate (max)(SPS): 200k; SFDR(dB): 95; SINAD(dB): 81.5; SNR(dB): 82; SubFamily: Precision ADC (<=10MSPS); DatasheetVersion: SLAS345; PackageVersion: 4073329/E, 05/2006; PackageReference: DGK8; PackageDescription: 8-Pin Thin Small Outline, Body 3 x 3 mm, Pitch 0.65 mm; Supplier 1: Digi-Key; Supplier Part Number 1: 296-1333-5-ND; Digital Supply(Max)(V): 5.5; Digital Supply(Min)(V): 4.5; Eco-Plan: Green (RoHS & no Sb/Br); INL(Max)(+/-LSB): 1; Mounting Technology: Surface Mount; Code_JEDEC: MO-187; ComponentLink1Description: Manufacturer URL; ComponentLink1URL: http://www.ti.com/; ComponentLink2Description: Datasheet; ComponentLink2URL: http://www.ti.com/general/docs/lit/getliterature.tsp?genericPartNumber=TLC3541&fileType=pdf; ComponentLink3Description: Package Specification; ComponentLink3URL: http://www.ti.com/litv/pdf/mpds028d
footprint TI-DGK8_N (SOP, 8-Leads, Body 3x3mm, Pitch 0.65mm, IPC Medium Density)
footprint TI-DGK8_L (SOP, 8-Leads, Body 3x3mm, Pitch 0.65mm, IPC High Density)
footprint TI-DGK8_M (SOP, 8-Leads, Body 3x3mm, Pitch 0.65mm, IPC Low Density)
pins: 1 ~{CS} (in) "Chip select. A high-to-low transition on the C\S\ input removes SDO from a high-impedance state within a maximum delay time. If the TLC4541 is attached to a dedicated TMS320 DSP serial port using the FS input, C\S\ can be (See Datasheet)", 2 REF (in) "External voltage reference input", 3 GND (power) "Ground return for the internal circuitry. Unless otherwise noted, all voltage measurements are with respect to GND.", 4 AIN (in) "Analog input channel", 5 SCLK (in) "Serial clock. This terminal receives the serial SCLK from the host processor.", 6 VDD (power) "Positive supply voltage", 7 FS (in) "DSP frame sync input. Indication of a start of a serial data frame. A low-to-high transition removes SDO from the high-impedance state and the MSB is presented. Tie this pin to VDD if not used.", 8 SDO (hiz) "The 3-state serial data output for the A/D conversion result. SDO is kept in the high-impedance state when C\S\ is high. The output format is MSB first. Remaining data bits are presented on the rirsing edge of SCLK. When FS (See Datasheet)"

## TLC3541IDGKR
designator U?
14-Bit 200 kSPS ADC Serial Out, Auto Power Down, Single Ended Input, -40 to 85 degC, 8-pin SOP (DGK8), Green (RoHS & no Sb/Br); Manufacturer: Texas Instruments; PartNumber: TLC3541IDGKR; # Input Channels: 1; Analog Voltage AV/DD(Max)(V): 5.5; Analog Voltage AV/DD(Min)(V): 4.5; Architecture: SAR; ENOB(Bits): 13.2; Interface: Serial SPI; Resolution(Bits): 14; Sample Rate (max)(SPS): 200k; SFDR(dB): 95; SINAD(dB): 81.5; SNR(dB): 82; SubFamily: Precision ADC (<=10MSPS); DatasheetVersion: SLAS345; PackageVersion: 4073329/E, 05/2006; PackageReference: DGK8; PackageDescription: 8-Pin Thin Small Outline, Body 3 x 3 mm, Pitch 0.65 mm; Supplier 1: Digi-Key; Supplier Part Number 1: TLC542IDWG4-ND; Digital Supply(Max)(V): 5.5; Digital Supply(Min)(V): 4.5; Eco-Plan: Green (RoHS & no Sb/Br); INL(Max)(+/-LSB): 1; Mounting Technology: Surface Mount; Code_JEDEC: MO-187; ComponentLink1Description: Manufacturer URL; ComponentLink1URL: http://www.ti.com/; ComponentLink2Description: Datasheet; ComponentLink2URL: http://www.ti.com/general/docs/lit/getliterature.tsp?genericPartNumber=TLC3541&fileType=pdf; ComponentLink3Description: Package Specification; ComponentLink3URL: http://www.ti.com/litv/pdf/mpds028d
footprint TI-DGK8_N (SOP, 8-Leads, Body 3x3mm, Pitch 0.65mm, IPC Medium Density)
footprint TI-DGK8_L (SOP, 8-Leads, Body 3x3mm, Pitch 0.65mm, IPC High Density)
footprint TI-DGK8_M (SOP, 8-Leads, Body 3x3mm, Pitch 0.65mm, IPC Low Density)
pins: 1 ~{CS} (in) "Chip select. A high-to-low transition on the C\S\ input removes SDO from a high-impedance state within a maximum delay time. If the TLC4541 is attached to a dedicated TMS320 DSP serial port using the FS input, C\S\ can be (See Datasheet)", 2 REF (in) "External voltage reference input", 3 GND (power) "Ground return for the internal circuitry. Unless otherwise noted, all voltage measurements are with respect to GND.", 4 AIN (in) "Analog input channel", 5 SCLK (in) "Serial clock. This terminal receives the serial SCLK from the host processor.", 6 VDD (power) "Positive supply voltage", 7 FS (in) "DSP frame sync input. Indication of a start of a serial data frame. A low-to-high transition removes SDO from the high-impedance state and the MSB is presented. Tie this pin to VDD if not used.", 8 SDO (hiz) "The 3-state serial data output for the A/D conversion result. SDO is kept in the high-impedance state when C\S\ is high. The output format is MSB first. Remaining data bits are presented on the rirsing edge of SCLK. When FS (See Datasheet)"

## TLC3541IDGKRG4
designator U?
14-Bit 200 kSPS ADC Serial Out, Auto Power Down, Single Ended Input, -40 to 85 degC, 8-pin SOP (DGK8), Green (RoHS & no Sb/Br); Manufacturer: Texas Instruments; PartNumber: TLC3541IDGKRG4; # Input Channels: 1; Analog Voltage AV/DD(Max)(V): 5.5; Analog Voltage AV/DD(Min)(V): 4.5; Architecture: SAR; ENOB(Bits): 13.2; Interface: Serial SPI; Resolution(Bits): 14; Sample Rate (max)(SPS): 200k; SFDR(dB): 95; SINAD(dB): 81.5; SNR(dB): 82; SubFamily: Precision ADC (<=10MSPS); DatasheetVersion: SLAS345; PackageVersion: 4073329/E, 05/2006; PackageReference: DGK8; PackageDescription: 8-Pin Thin Small Outline, Body 3 x 3 mm, Pitch 0.65 mm; Supplier 1: Digi-Key; Supplier Part Number 1: 296-1333-2-ND; Digital Supply(Max)(V): 5.5; Digital Supply(Min)(V): 4.5; Eco-Plan: Green (RoHS & no Sb/Br); INL(Max)(+/-LSB): 1; Mounting Technology: Surface Mount; Code_JEDEC: MO-187; ComponentLink1Description: Manufacturer URL; ComponentLink1URL: http://www.ti.com/; ComponentLink2Description: Datasheet; ComponentLink2URL: http://www.ti.com/general/docs/lit/getliterature.tsp?genericPartNumber=TLC3541&fileType=pdf; ComponentLink3Description: Package Specification; ComponentLink3URL: http://www.ti.com/litv/pdf/mpds028d
footprint TI-DGK8_N (SOP, 8-Leads, Body 3x3mm, Pitch 0.65mm, IPC Medium Density)
footprint TI-DGK8_L (SOP, 8-Leads, Body 3x3mm, Pitch 0.65mm, IPC High Density)
footprint TI-DGK8_M (SOP, 8-Leads, Body 3x3mm, Pitch 0.65mm, IPC Low Density)
pins: 1 ~{CS} (in) "Chip select. A high-to-low transition on the C\S\ input removes SDO from a high-impedance state within a maximum delay time. If the TLC4541 is attached to a dedicated TMS320 DSP serial port using the FS input, C\S\ can be (See Datasheet)", 2 REF (in) "External voltage reference input", 3 GND (power) "Ground return for the internal circuitry. Unless otherwise noted, all voltage measurements are with respect to GND.", 4 AIN (in) "Analog input channel", 5 SCLK (in) "Serial clock. This terminal receives the serial SCLK from the host processor.", 6 VDD (power) "Positive supply voltage", 7 FS (in) "DSP frame sync input. Indication of a start of a serial data frame. A low-to-high transition removes SDO from the high-impedance state and the MSB is presented. Tie this pin to VDD if not used.", 8 SDO (hiz) "The 3-state serial data output for the A/D conversion result. SDO is kept in the high-impedance state when C\S\ is high. The output format is MSB first. Remaining data bits are presented on the rirsing edge of SCLK. When FS (See Datasheet)"

## TLC3541IDR
designator U?
14-Bit 200 kSPS ADC Serial Out, Auto Power Down, Single Ended Input, -40 to 85 degC, 8-pin SOIC (D8), Green (RoHS & no Sb/Br); Manufacturer: Texas Instruments; PartNumber: TLC3541IDR; # Input Channels: 1; Analog Voltage AV/DD(Max)(V): 5.5; Analog Voltage AV/DD(Min)(V): 4.5; Architecture: SAR; ENOB(Bits): 13.2; Interface: Serial SPI; Resolution(Bits): 14; Sample Rate (max)(SPS): 200k; SFDR(dB): 95; SINAD(dB): 81.5; SNR(dB): 82; SubFamily: Precision ADC (<=10MSPS); DatasheetVersion: SLAS345; PackageVersion: 4040047-3/M, 06/2011; PackageReference: D8; PackageDescription: 8-Pin Plastic Small Outline, Body 4.9 x 3.9 mm, Pitch 1.27 mm; Supplier 1: Digi-Key; Supplier Part Number 1: TLC542IDWRG4-ND; Digital Supply(Max)(V): 5.5; Digital Supply(Min)(V): 4.5; Eco-Plan: Green (RoHS & no Sb/Br); INL(Max)(+/-LSB): 1; Mounting Technology: Surface Mount; Code_JEDEC: MS-012; ComponentLink1Description: Manufacturer URL; ComponentLink1URL: http://www.ti.com/; ComponentLink2Description: Datasheet; ComponentLink2URL: http://www.ti.com/general/docs/lit/getliterature.tsp?genericPartNumber=TLC3541&fileType=pdf; ComponentLink3Description: Package Specification; ComponentLink3URL: http://www.ti.com/litv/pdf/msoi002j
footprint TI-D8_N (SOIC, 8-Leads, Body 4.9x3.9mm, Pitch 1.27mm, IPC Medium Density)
footprint TI-D8_L (SOIC, 8-Leads, Body 4.9x3.9mm, Pitch 1.27mm, IPC High Density)
footprint TI-D8_M (SOIC, 8-Leads, Body 4.9x3.9mm, Pitch 1.27mm, IPC Low Density)
pins: 1 ~{CS} (in) "Chip select. A high-to-low transition on the C\S\ input removes SDO from a high-impedance state within a maximum delay time. If the TLC4541 is attached to a dedicated TMS320 DSP serial port using the FS input, C\S\ can be (See Datasheet)", 2 REF (in) "External voltage reference input", 3 GND (power) "Ground return for the internal circuitry. Unless otherwise noted, all voltage measurements are with respect to GND.", 4 AIN (in) "Analog input channel", 5 SCLK (in) "Serial clock. This terminal receives the serial SCLK from the host processor.", 6 VDD (power) "Positive supply voltage", 7 FS (in) "DSP frame sync input. Indication of a start of a serial data frame. A low-to-high transition removes SDO from the high-impedance state and the MSB is presented. Tie this pin to VDD if not used.", 8 SDO (hiz) "The 3-state serial data output for the A/D conversion result. SDO is kept in the high-impedance state when C\S\ is high. The output format is MSB first. Remaining data bits are presented on the rirsing edge of SCLK. When FS (See Datasheet)"